# EAGLE library part PWR_TLV70233DBV_0_SO8-25X75_TL5 (library BeagleBone_Black_egl)
PWR_TLV70233DBV_0_SO8-25X75_TL5
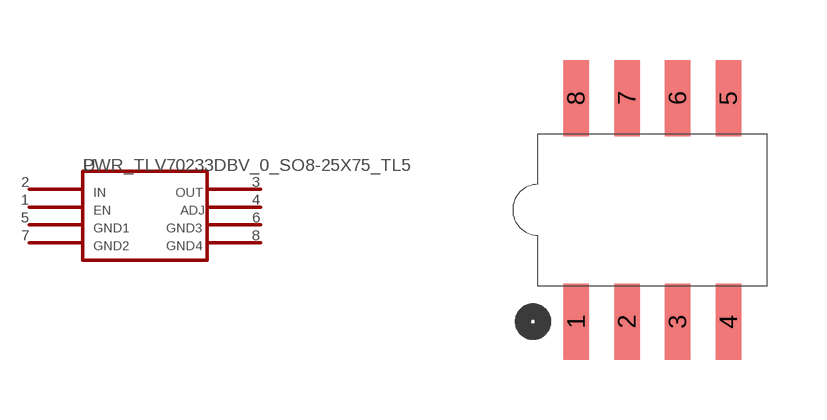
[diagram p17: symbol with the pads of SO8-25X75; footprint SO8-25X75]

Designator prefix -

## PWR_TLV70233DBV_0_SO8-25X75_TL5  [SO8-25X75]
1  4
2  1
3  2
4  5
5  3
6  6
7  7
8  8

## Footprint SO8-25X75 (pad centres in mm)
smd 0.635 x 1.905: 1 -1.905,-2.794; 2 -0.635,-2.794; 3 0.635,-2.794; 4 1.905,-2.794; 5 1.905,2.794; 6 0.635,2.794; 7 -0.635,2.794; 8 -1.905,2.794